# Altium schematic symbol library CONN-STD-40P-FPC.SchLib: 1 symbol
Pins are listed as number, name and electrical type; pins without a type are passive.

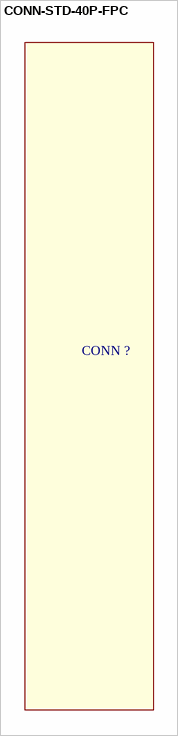
[diagram p0: symbol CONN-STD-40P-FPC]

## CONN-STD-40P-FPC
designator CONN ?  (value not drawn)
Connector/PAD 40PIN 0.5mm